# Altium footprint library DCM_8520.PcbLib: 1 footprints
Each footprint in its own frame and in the unit in brackets; x right, y up, seen from the top. Pads: shape width x height; smd on the part's side, far side on the other; paste and mask are expansions set on the pad; w line width, h text height; cw(c..) or ccw(c..) is an arc to the next point about the centre after c.
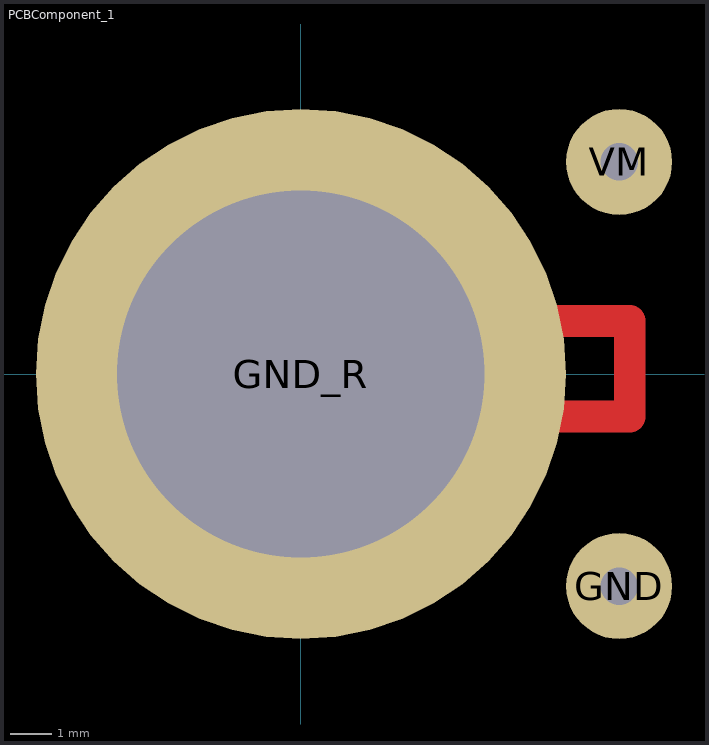
[diagram p0: the footprint, top view; thin cyan lines are the x and y axes]

## PCBComponent_1 [mil]
pads (3):
  round 100 smd: GND(300,-200) VM(300,200)
  round 500 smd: GND_R(0,0)
via 300,-200 diameter 70 hole 35.43
via 300,200 diameter 70 hole 35.43
via 0,0 diameter 433.07 hole 346.46
Top Layer:
  lines w30: 210,-40 310,-40 310,50 210,50 210,-40